# Altium footprint library ResistorAxial.PcbLib: 48 footprints (part 2 of 3)
Each footprint in its own frame and in the unit in brackets; x right, y up, seen from the top. Pads: shape width x height; smd on the part's side, far side on the other; paste and mask are expansions set on the pad; w line width, h text height; cw(c..) or ccw(c..) is an arc to the next point about the centre after c.
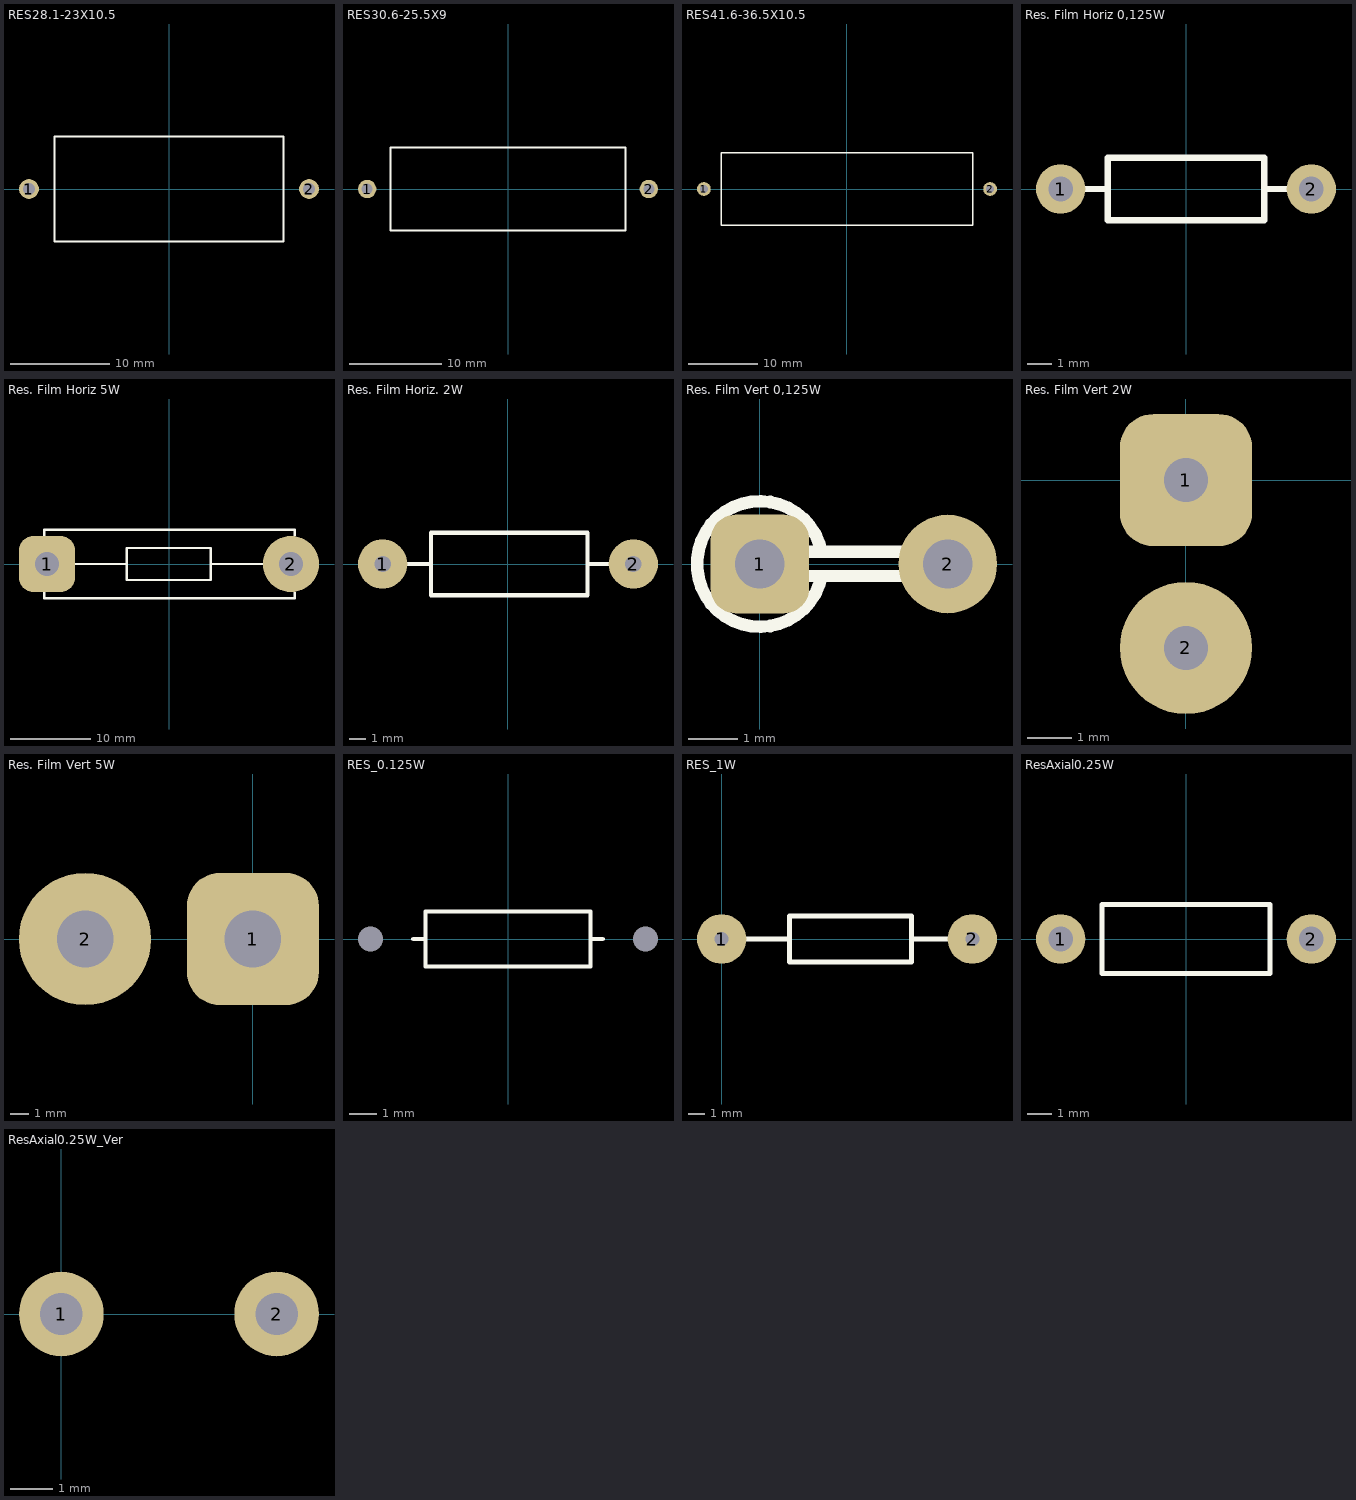
[diagram p1: the footprints below, top view; thin cyan lines are the x and y axes]

## RES28.1-23X10.5 [mm] "Resistor, Axial; Body 23 x 10.5 x 10.5mm (LxWxH max), Lead Dia. 0.85 mm (max)"
height 10.5
pads (2):
  round 2 hole 1.2: 1(-14.05,0) 2(14.05,0)
Top Overlay:
  lines w0.2: -11.5,-5.25 -11.5,5.25 11.5,5.25 11.5,-5.25 -11.5,-5.25

## RES30.6-25.5X9 [mm] "Resistor, Axial; Body 25.5 x 9 mm (LxDia. max), Lead Dia. 0.85 mm (max)"
height 9
pads (2):
  round 2 hole 1.2: 1(-15.3,0) 2(15.3,0)
Top Overlay:
  lines w0.2: -12.75,-4.5 12.75,-4.5 12.75,4.5 -12.75,4.5 -12.75,-4.5

## RES41.6-36.5X10.5 [mm] "Resistor, Axial; Body 36.5 x 10.5 x 10.5mm (LxWxH max), Lead Dia. 0.85 mm (max)"
height 10.5
pads (2):
  round 2 hole 1.2: 1(-20.8,0) 2(20.8,0)
Top Overlay:
  lines w0.2: -18.25,-5.25 -18.25,5.25 18.25,5.25 18.25,-5.25 -18.25,-5.25

## Res. Film Horiz 0,125W [mm] "RES 0,125W -H  L=6 D=2,3 d=0,6 Pin2Pin=10,16"
pads (2):
  round 2 hole 1: 1(-5.08,0) 2(5.08,0)
Top Overlay:
  lines w0.254: -5.08,0 -3.175,0 ; 3.175,0 5.08,0 ; -3.175,-1.27 3.175,-1.27 3.175,1.27 -3.175,1.27 -3.175,-1.27
3D body "User Library-RES 0,125W -H  L=6 D=2,3 d=0,6 Pin2Pin=10,16.STEP": height 3.45, standoff -5.36, extent -5.38,-1.15 5.38,1.151

## Res. Film Horiz 5W [mm] "RES 5W -V L=24 D=8 d=0,8 Pin2Pin=8,89"
pads (2):
  rrect50% 7x7 hole 3: 1(-15.24,0)
  round 7 hole 3: 2(15.24,0)
Top Overlay:
  lines w0.3: -15.6,-3.5 -15.6,-4.3 15.7,-4.3 15.7,-3.6 ; -15.6,3.5 -15.6,4.3 15.7,4.3 15.7,3.6 ; -15.24,0 -5.3,0 ; 5.2,0 15.24,0 ; -5.3,-2 -5.3,2 5.2,2 5.2,-2 -5.3,-2
3D body "User Library-RES 5W -H  L=24 D=8 d=0,8 Pin2Pin=30,48.STEP": height 12, standoff 0.46, extent -15.64,-4.001 15.64,4.001

## Res. Film Horiz. 2W [mm] "2W resistor with colors strip, .600 inch pitch"
pads (2):
  round 3 hole 1: 1(-7.629,0) 2(7.63,0)
Top Overlay:
  lines w0.254: -7.629,0 -4.689,0 ; 4.836,0 7.629,0 ; -4.689,-1.905 -4.689,1.905 4.836,1.905 4.836,-1.905 -4.689,-1.905
3D body "User Library-Resistor_Carvao_2W.STEP": height 5, standoff -3, extent -8.029,-2 8.011,2

## Res. Film Vert 0,125W [mm] "RES 1M OHM 1/8W 5% CARBON FILM"
height 10
pads (2):
  rrect50% 2x2 hole 1: 1(0,0)
  round 2 hole 1: 2(3.81,0)
Top Overlay:
  lines w0.254: 1.25,-0.25 cw(c0,0) 1.25,0.25 ; 3.334,-0.24 0,-0.25 cw(c0,0) 0,0.25 3.313,0.25 ; 3.313,0.25 3.416,0.354 cw(c3.77,0) 3.334,-0.244 3.77,-0.25 ccw(c3.77,0) 3.77,0.25 3.313,0.25
3D body "User Library-RES 0,125W -V  L=6 D=2,3 d=0,6 Pin2Pin=3,81.STEP": height 9.5, standoff -3, extent -1.147,-1.151 4.11,1.149

## Res. Film Vert 2W [mm] "RESAD375W80L1600D500 2W"
pads (2):
  rrect50% 3x3 hole 1: 1(0,0)
  round 3 hole 1: 2(0,-3.81)
3D body "User Library-RESAD375W80L1600D500_2W.STEP": height 20.3, standoff -3.1, extent -2.5,-4.15 2.5,2.5

## Res. Film Vert 5W [mm] "RES 5W -H L=24 D=8 d=0,8 Pin2Pin=30,48"
pads (2):
  rrect50% 7x7 hole 3: 1(0,0)
  round 7 hole 3: 2(-8.89,0)
3D body "User Library-RES 5W -V  L=24 D=8 d=0,8 Pin2Pin=8,89.STEP": height 28.8, standoff -3, extent -9.184,-4.189 4.104,3.81

## RES_0.125W [mil]
height 80
pads (2):
  round 0 / inner round 0 / far side round 100 hole 36 unplated: 1(-200,0) 2(200,0)
Top Overlay:
  lines w6: -137.8,0 -120,0 ; 120,0 137.8,0 ; -120,-40 120,-40 120,40 -120,40 -120,-40
3D body "RESTH_Axial-0.4.STEP": height 102.23, standoff -100, extent -211.81,-50.27 211.81,50.27

## RES_1W [mm]
pads (2):
  round 3 hole 0.85: 1(0,0) 2(15.2,0)
Top Overlay:
  lines w0.3: 0,0 4.1,0 ; 11.5,0 15.2,0 ; 4.1,0 4.1,-1.4 11.5,-1.4 11.5,1.4 4.1,1.4 4.1,0
3D body "User Library-RES-1W.STEP": height 5, standoff -3, extent -0.35,-2.503 15.59,2.497

## ResAxial0.5W [mm]

## ResAxial0.5W_Ver [mm]

## ResAxial0.25W [mm]
pads (2):
  round 2 hole 1: 1(-5.08,0) 2(5.08,0)
Top Overlay:
  lines w0.2: -3.4,-1.4 -3.4,1.4 3.4,1.4 3.4,-1.4 -3.4,-1.4
3D body "User Library-AXIAL_RESISTOR(0_25W).step": height 4.1, standoff 0, extent -5.4,-1.13 5.4,1.27

## ResAxial0.25W_Ver [mm]
pads (2):
  round 2 hole 1: 1(0,0) 2(5.08,0)

## ResAxial0.125W [mm]